# Altium schematic symbol library LTST-S220KGKT.SchLib: 1 symbol
Pins are listed as number, name and electrical type; pins without a type are passive.

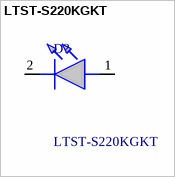
[diagram p0: symbol LTST-S220KGKT]

## LTST-S220KGKT
designator D?
LTST-S220KGKT, Lite-On 571 nm Green LED, 2012 (0805) Side View SMD package; Geometry.Height: 0.6mm; Mouser Part Number: 859-LTST-S220KGKT; Mouser Price/Stock: https://www.mouser.co.uk/ProductDetail/Lite-On/LTST-S220KGKT?qs=KMS9ZICL0BxKPmHbZC5Zog%3D%3D; Manufacturer_Name: Lite-On; Manufacturer_Part_Number: LTST-S220KGKT; Datasheet Link: https://optoelectronics.liteon.com/upload/download/DS22-2000-075/LTST-S220KGKT.pdf
footprint LTSTS220KGKT
pins: 1 A, 2 K